# Altium integrated library 68000-406HLF.IntLib: 1 symbol
Pins are listed as number, name and electrical type; pins without a type are passive.

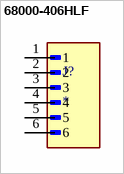
[diagram p0: symbol 68000-406HLF]

## 68000-406HLF
designator J?
Conn Rect UnshroudedHdr 6Cnts ThruHole BergStik 2.54mmPin-Spng Vert 1-Row | Amphenol FCI (Amphenol CS) 68000-406HLF; SnapEDA_Link: https://www.snapeda.com/parts/68000-406HLF/Amphenol/view-part/?ref=snap; Package: None; Value: *; MF: Amphenol; MP: 68000-406HLF; Check_prices: https://www.snapeda.com/parts/68000-406HLF/Amphenol/view-part/?ref=eda
footprint AMPHENOL_68000-406HLF
pins: 1, 2, 3, 4, 5, 6